# EAGLE library part DRV883X (library vibhud)
DRV8835 2 Channel Motor Driver Dual 1.5A H-bridge, 2-11V Datasheet <http://www.ti.com/lit/ds/symlink/drv8835.pdf> SparkFun Products: SparkFun Serial Controlled Motor Driver <https://www.sparkfun.com/products/13911>
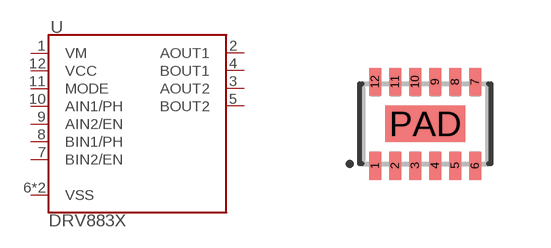
[diagram p3: symbol with the pads of WSON-12; footprint WSON-12]

Designator prefix U

## DRV883X (PROD_ID: IC-13342; VALUE: DRV8835)  [WSON-12]
1  VM
2  AOUT1
3  AOUT2
4  BOUT1
5  BOUT2
6  VSS
7  BIN2/EN
8  BIN1/PH
9  AIN2/EN
10  AIN1/PH
11  MODE
12  VCC
PAD  VSS

## Footprint WSON-12 (pad centres in mm)
WSON-12 Specifications: Pin count: 12 Area:2mmx3mm Datasheet referenced for footprint <http://www.ti.com/lit/ds/symlink/drv8835.pdf> Example device(s): DRV883X
smd 0.3 x 0.7: 1 -1.25,-1.05; 2 -0.75,-1.05; 3 -0.25,-1.05; 4 0.25,-1.05; 5 0.75,-1.05; 6 1.25,-1.05; 7 1.25,1.05; 8 0.75,1.05; 9 0.25,1.05; 10 -0.25,1.05; 11 -0.75,1.05; 12 -1.25,1.05
smd 2 x 0.9: PAD 0,0